# Altium footprint library con-omron.PCBLIB: 109 footprints (part 1 of 8)
Each footprint in its own frame and in the unit in brackets; x right, y up, seen from the top. Pads: shape width x height; smd on the part's side, far side on the other; paste and mask are expansions set on the pad; w line width, h text height; cw(c..) or ccw(c..) is an arc to the next point about the centre after c.
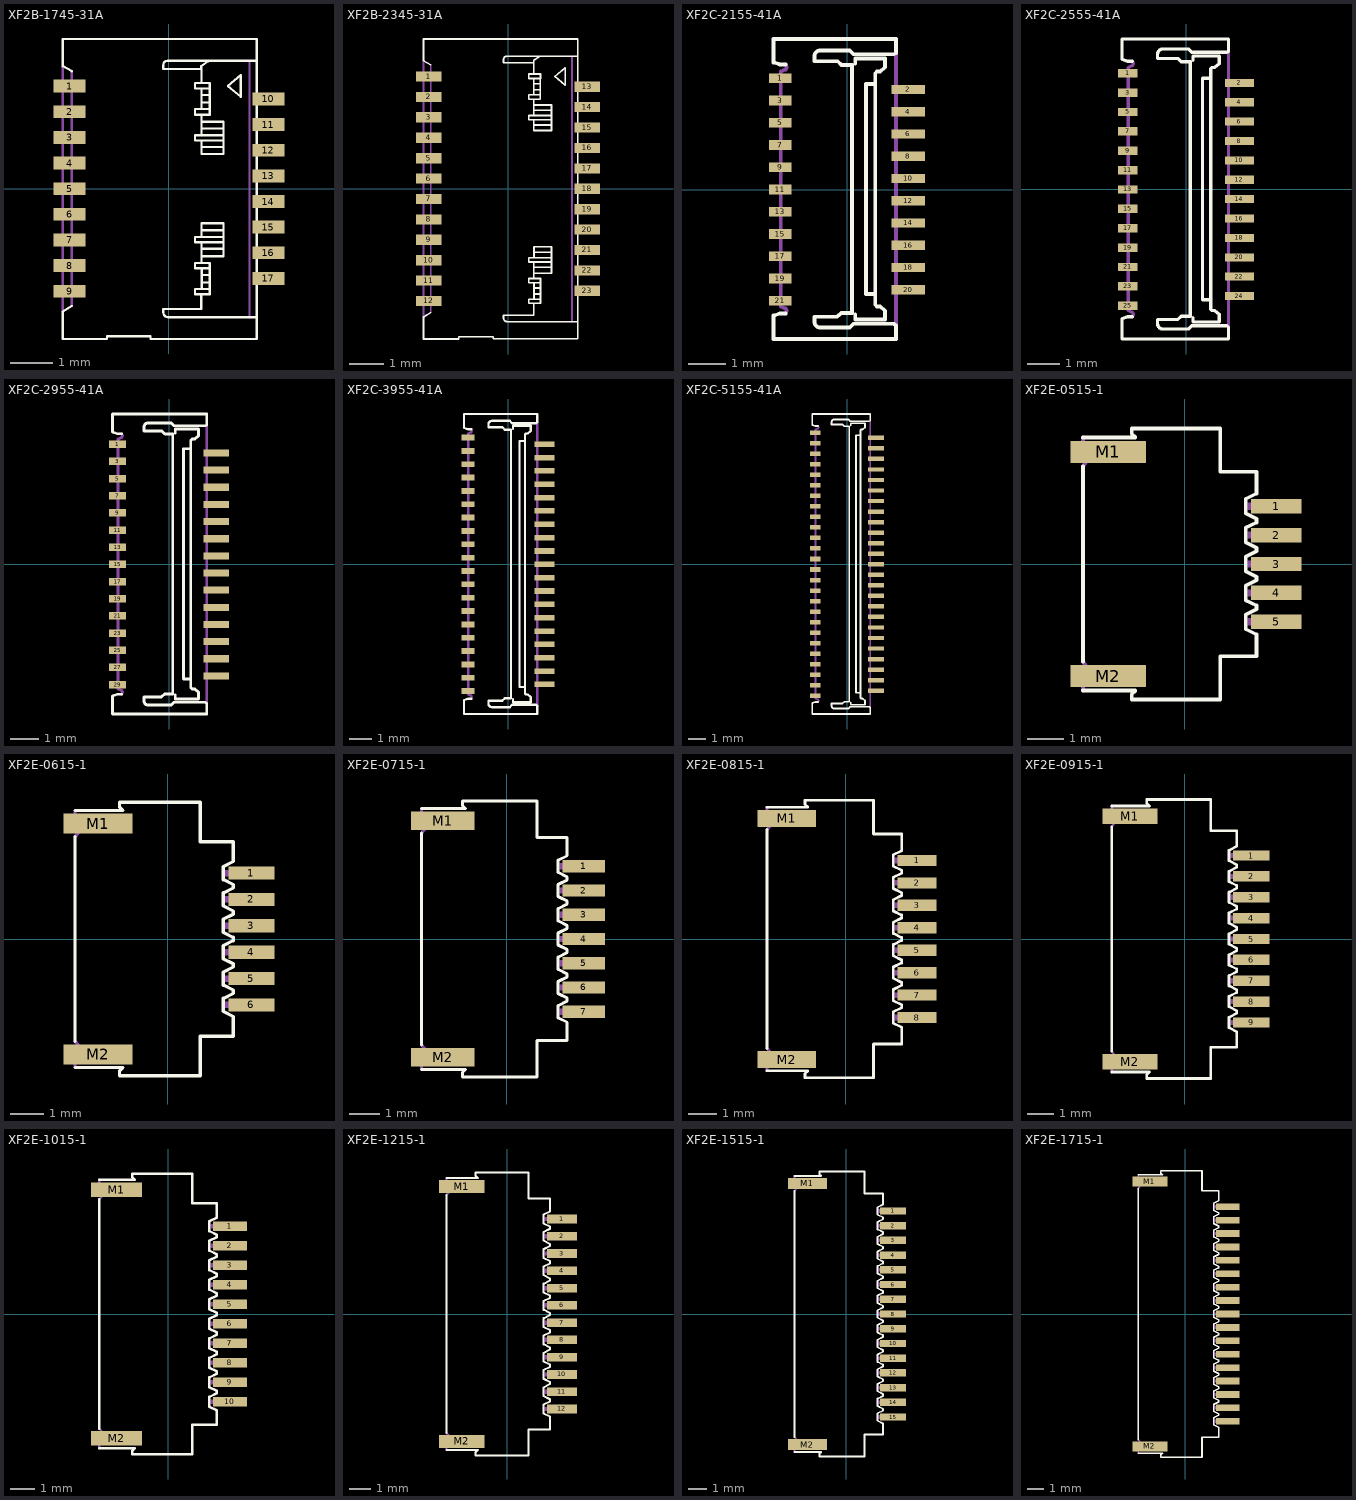
[diagram p0: the footprints below, top view; thin cyan lines are the x and y axes]

## XF2B-1745-31A [mm]
pads (17):
  rect 0.75x0.3 smd: 1(-2.325,2.4) 2(-2.325,1.8) 3(-2.325,1.2) 4(-2.325,0.6) 5(-2.325,0) 6(-2.325,-0.6) 7(-2.325,-1.2) 8(-2.325,-1.8) 9(-2.325,-2.4) 10(2.325,2.1) 11(2.325,1.5) 12(2.325,0.9) 13(2.325,0.3) 14(2.325,-0.3) 15(2.325,-0.9) 16(2.325,-1.5) 17(2.325,-2.1)
Top Overlay:
  lines w0.051: -2.275,-2.745 -2.485,-2.871 -2.485,-3.517 -1.448,-3.517 -1.448,-3.453 -0.435,-3.453 -0.435,-3.514 2.054,-3.514 2.054,3.503 -2.485,3.503 -2.485,2.867 -2.275,2.75 ; 0.738,2.473 0.612,2.473 0.612,2.344 0.955,2.344 0.955,2.473 0.758,2.473 0.758,2.796 ; 0.755,2.874 0.755,2.803 -0.133,2.803 -0.133,2.898 cw(c-0.037,2.898) -0.037,2.993 2.03,2.993 ; 0.758,-1.712 0.758,-1.253 1.278,-1.253 1.278,-1.583 0.785,-1.583 ; 0.758,1.106 0.758,0.81 1.278,0.81 1.278,1.123 ; 0.758,1.252 0.758,1.708 ; 0.758,1.875 0.758,2.316 ; 0.758,2.874 0.918,2.983 ; 0.761,-1.253 0.612,-1.253 0.612,-1.127 1.278,-1.127 ; 0.761,-1.103 0.761,-0.807 1.278,-0.807 1.278,-1.236 ; 0.765,-2.337 0.765,-1.888 ; 0.782,1.565 1.278,1.565 1.278,1.252 0.612,1.252 0.612,1.13 1.278,1.13 1.278,1.249 ; 0.785,-1.406 1.251,-1.406 ; 0.785,0.973 1.251,0.973 ; 0.785,1.405 1.255,1.405 ; 0.785,2.014 0.928,2.014 ; 0.785,2.19 0.925,2.19 ; 0.789,-2.191 0.932,-2.191 ; 0.789,-0.971 1.255,-0.971 ; 0.792,-2.018 0.932,-2.018 ; 0.938,-1.861 0.612,-1.861 0.612,-1.739 0.955,-1.739 0.955,-2.348 ; 0.945,1.864 0.612,1.864 0.612,1.732 0.952,1.732 0.952,2.316 ; 2.026,-3.007 -0.024,-3.007 cw(c-0.024,-2.898) -0.133,-2.898 -0.133,-2.817 0.755,-2.817 0.755,-2.47 ; 0.755,-2.47 0.612,-2.47 0.612,-2.348 0.955,-2.348 ; 0.755,-2.47 0.955,-2.47 0.955,-2.348 ; 1.377,2.401 1.68,2.66 1.68,2.15 1.377,2.401
Mechanical 16:
  rectangle: 2.054,2.007 2.587,2.197
  rectangle: -2.611,2.316 -2.292,2.497
  rectangle: 2.054,1.407 2.587,1.597
  rectangle: 2.054,0.807 2.587,0.997
  rectangle: 2.054,0.207 2.587,0.398
  rectangle: 2.054,-0.393 2.587,-0.203
  rectangle: 2.054,-0.993 2.587,-0.803
  rectangle: 2.054,-1.593 2.587,-1.403
  rectangle: 2.054,-2.193 2.587,-2.003
  rectangle: -2.611,1.716 -2.292,1.897
  rectangle: -2.611,1.116 -2.292,1.297
  rectangle: -2.611,0.516 -2.292,0.697
  rectangle: -2.611,-0.084 -2.292,0.097
  rectangle: -2.611,-0.684 -2.292,-0.503
  rectangle: -2.611,-1.284 -2.292,-1.103
  rectangle: -2.611,-1.884 -2.292,-1.703
  rectangle: -2.611,-2.484 -2.292,-2.304
  lines w0.051: -2.485,-2.871 -2.485,2.86 ; -2.275,-2.74 -2.275,2.75 ; 0.755,2.874 0.758,2.874 ; 0.758,1.252 0.761,1.252 ; 0.761,-1.26 0.761,-1.253 ; 1.278,-1.13 1.278,-1.127 ; 1.884,-3.007 1.884,2.971

## XF2B-2345-31A [mm]
pads (23):
  rect 0.75x0.3 smd: 1(-2.325,3.3) 2(-2.325,2.7) 3(-2.325,2.1) 4(-2.325,1.5) 5(-2.325,0.9) 6(-2.325,0.3) 7(-2.325,-0.3) 8(-2.325,-0.9) 9(-2.325,-1.5) 10(-2.325,-2.1) 11(-2.325,-2.7) 12(-2.325,-3.3) 13(2.325,3) 14(2.325,2.4) 15(2.325,1.8) 16(2.325,1.2) 17(2.325,0.6) 18(2.325,0) 19(2.325,-0.6) 20(2.325,-1.2) 21(2.325,-1.8) 22(2.325,-2.4) 23(2.325,-3)
Top Overlay:
  lines w0.051: -2.275,-3.645 -2.485,-3.771 -2.485,-4.417 -1.448,-4.417 -1.448,-4.353 -0.435,-4.353 -0.435,-4.414 2.054,-4.414 2.054,4.403 -2.485,4.403 -2.485,3.767 -2.275,3.65 ; 0.738,3.373 0.612,3.373 0.612,3.244 0.955,3.244 0.955,3.373 0.758,3.373 0.758,3.696 ; 0.755,3.774 0.755,3.703 -0.133,3.703 -0.133,3.798 cw(c-0.037,3.798) -0.037,3.893 2.03,3.893 ; 0.758,-2.612 0.758,-2.153 1.278,-2.153 1.278,-2.483 0.785,-2.483 ; 0.758,2.006 0.758,1.71 1.278,1.71 1.278,2.023 ; 0.758,2.152 0.758,2.608 ; 0.758,2.774 0.758,3.216 ; 0.758,3.774 0.918,3.883 ; 0.761,-2.153 0.612,-2.153 0.612,-2.027 1.278,-2.027 ; 0.761,-2.003 0.761,-1.707 1.278,-1.707 1.278,-2.136 ; 0.765,-3.237 0.765,-2.789 ; 0.782,2.465 1.278,2.465 1.278,2.152 0.612,2.152 0.612,2.03 1.278,2.03 1.278,2.149 ; 0.785,-2.306 1.251,-2.306 ; 0.785,1.874 1.251,1.874 ; 0.785,2.305 1.255,2.305 ; 0.785,2.914 0.928,2.914 ; 0.785,3.091 0.925,3.091 ; 0.789,-3.091 0.932,-3.091 ; 0.789,-1.871 1.255,-1.871 ; 0.792,-2.918 0.932,-2.918 ; 0.938,-2.761 0.612,-2.761 0.612,-2.639 0.955,-2.639 0.955,-3.248 ; 0.945,2.764 0.612,2.764 0.612,2.632 0.952,2.632 0.952,3.216 ; 2.026,-3.907 -0.024,-3.907 cw(c-0.024,-3.798) -0.133,-3.798 -0.133,-3.717 0.755,-3.717 0.755,-3.37 ; 0.755,-3.37 0.612,-3.37 0.612,-3.248 0.955,-3.248 ; 0.755,-3.37 0.955,-3.37 0.955,-3.248 ; 1.377,3.301 1.68,3.56 1.68,3.05 1.377,3.301
Mechanical 16:
  rectangle: 2.054,2.907 2.587,3.097
  rectangle: -2.611,3.216 -2.292,3.396
  rectangle: -2.611,-3.397 -2.275,-3.227
  rectangle: 2.074,-3.101 2.587,-2.911
  rectangle: 2.054,2.307 2.587,2.497
  rectangle: 2.054,1.707 2.587,1.897
  rectangle: 2.054,1.107 2.587,1.297
  rectangle: 2.054,0.507 2.587,0.697
  rectangle: 2.054,-0.093 2.587,0.097
  rectangle: 2.054,-0.693 2.587,-0.503
  rectangle: 2.054,-1.293 2.587,-1.103
  rectangle: 2.054,-1.893 2.587,-1.703
  rectangle: 2.054,-2.493 2.587,-2.303
  rectangle: -2.611,2.616 -2.292,2.797
  rectangle: -2.611,2.017 -2.292,2.197
  rectangle: -2.611,1.416 -2.292,1.597
  rectangle: -2.611,0.816 -2.292,0.997
  rectangle: -2.611,0.216 -2.292,0.396
  rectangle: -2.611,-0.384 -2.292,-0.203
  rectangle: -2.611,-0.983 -2.292,-0.803
  rectangle: -2.611,-1.584 -2.292,-1.403
  rectangle: -2.611,-2.184 -2.292,-2.003
  rectangle: -2.611,-2.784 -2.292,-2.603
  lines w0.051: -2.485,-3.771 -2.485,3.76 ; -2.275,-3.64 -2.275,3.65 ; 0.755,3.774 0.758,3.774 ; 0.758,2.152 0.761,2.152 ; 0.761,-2.16 0.761,-2.153 ; 1.278,-2.03 1.278,-2.027 ; 1.884,-3.907 1.884,3.871

## XF2C-2155-41A [mm]
pads (21):
  rect 0.6x0.26 smd: 1(-1.8,3) 3(-1.8,2.4) 5(-1.8,1.8) 7(-1.8,1.2) 9(-1.8,0.6) 11(-1.8,0) 13(-1.8,-0.6) 15(-1.8,-1.2) 17(-1.8,-1.8) 19(-1.8,-2.4) 21(-1.8,-3)
  rect 0.9x0.25 smd: 2(1.65,2.7) 4(1.65,2.1) 6(1.65,1.5) 8(1.65,0.9) 10(1.65,0.3) 12(1.65,-0.3) 14(1.65,-0.9) 16(1.65,-1.5) 18(1.65,-2.1) 20(1.65,-2.7)
Top Overlay:
  lines w0.102: -1.656,-3.341 -1.803,-3.34 -1.978,-3.399 -1.978,-4.029 1.319,-4.029 1.319,-3.663 1.26,-3.619 0.176,-3.619 0.073,-3.721 -0.718,-3.722 cw(c-0.718,-3.56) -0.879,-3.56 -0.879,-3.428 -0.264,-3.428 -0.147,-3.326 0.132,-3.326 0.132,3.355 -0.147,3.355 -0.249,3.458 -0.879,3.458 -0.879,3.59 cw(c-0.718,3.59) -0.718,3.751 0.073,3.751 0.176,3.648 1.26,3.648 1.319,3.677 1.319,4.058 -1.978,4.058 -1.978,3.428 -1.803,3.37 -1.656,3.37 ; 0.22,-3.37 0.22,-3.501 1.026,-3.501 1.026,-3.267 0.894,-3.15 0.806,-3.15 0.762,-3.106 0.762,-2.813 ; 0.22,3.399 0.22,3.531 1.026,3.531 1.026,3.296 0.894,3.179 0.806,3.179 0.762,3.135 0.762,2.842 ; 0.762,-2.813 0.513,-2.813 0.513,2.842 0.762,2.842 ; 0.762,-2.813 0.762,2.842
Top Solder:
  rectangle: -2.15,2.825 -1.45,3.175
  rectangle: 1.15,2.525 2.15,2.875
  rectangle: -2.15,2.225 -1.45,2.575
  rectangle: 1.15,1.925 2.15,2.275
  rectangle: -2.15,1.625 -1.45,1.975
  rectangle: 1.15,1.325 2.15,1.675
  rectangle: -2.15,1.025 -1.45,1.375
  rectangle: 1.15,0.725 2.15,1.075
  rectangle: -2.15,0.425 -1.45,0.775
  rectangle: 1.15,0.125 2.15,0.475
  rectangle: -2.15,-0.175 -1.45,0.175
  rectangle: 1.15,-0.475 2.15,-0.125
  rectangle: -2.15,-0.775 -1.45,-0.425
  rectangle: 1.15,-1.075 2.15,-0.725
  rectangle: -2.15,-1.375 -1.45,-1.025
  rectangle: 1.15,-1.675 2.15,-1.325
  rectangle: -2.15,-1.975 -1.45,-1.625
  rectangle: 1.15,-2.275 2.15,-1.925
  rectangle: -2.15,-2.575 -1.45,-2.225
  rectangle: 1.15,-2.875 2.15,-2.525
  rectangle: -2.15,-3.175 -1.45,-2.825
Mechanical 16:
  lines w0.102: -1.656,-3.341 -1.627,-3.267 -1.656,-3.209 -1.788,-3.15 -1.788,3.179 -1.656,3.238 -1.627,3.296 -1.656,3.37 ; 1.319,-3.663 1.319,3.677

## XF2C-2555-41A [mm]
pads (25):
  rect 0.6x0.26 smd: 1(-1.8,3.6) 3(-1.8,3) 5(-1.8,2.4) 7(-1.8,1.8) 9(-1.8,1.2) 11(-1.8,0.6) 13(-1.8,0) 15(-1.8,-0.6) 17(-1.8,-1.2) 19(-1.8,-1.8) 21(-1.8,-2.4) 23(-1.8,-3) 25(-1.8,-3.6)
  rect 0.9x0.25 smd: 2(1.65,3.3) 4(1.65,2.7) 6(1.65,2.1) 8(1.65,1.5) 10(1.65,0.9) 12(1.65,0.3) 14(1.65,-0.3) 16(1.65,-0.9) 18(1.65,-1.5) 20(1.65,-2.1) 22(1.65,-2.7) 24(1.65,-3.3)
Top Overlay:
  lines w0.102: -1.656,-3.941 -1.803,-3.94 -1.978,-3.999 -1.978,-4.629 1.319,-4.629 1.319,-4.263 1.26,-4.219 0.176,-4.219 0.073,-4.321 -0.718,-4.322 cw(c-0.718,-4.16) -0.879,-4.16 -0.879,-4.028 -0.264,-4.028 -0.147,-3.926 0.132,-3.926 0.132,3.955 -0.147,3.955 -0.249,4.058 -0.879,4.058 -0.879,4.189 cw(c-0.718,4.189) -0.718,4.351 0.073,4.351 0.176,4.248 1.26,4.248 1.319,4.278 1.319,4.659 -1.978,4.659 -1.978,4.028 -1.803,3.97 -1.656,3.97 ; 0.22,-3.97 0.22,-4.102 1.026,-4.102 1.026,-3.867 0.894,-3.75 0.806,-3.75 0.762,-3.706 0.762,-3.413 ; 0.22,3.999 0.22,4.131 1.026,4.131 1.026,3.897 0.894,3.779 0.806,3.779 0.762,3.735 0.762,3.442 ; 0.762,-3.413 0.513,-3.413 0.513,3.442 0.762,3.442 ; 0.762,-3.413 0.762,3.442
Top Solder:
  rectangle: -2.15,3.425 -1.45,3.775
  rectangle: 1.15,3.125 2.15,3.475
  rectangle: -2.15,2.825 -1.45,3.175
  rectangle: 1.15,2.525 2.15,2.875
  rectangle: -2.15,2.225 -1.45,2.575
  rectangle: 1.15,1.925 2.15,2.275
  rectangle: -2.15,1.625 -1.45,1.975
  rectangle: 1.15,1.325 2.15,1.675
  rectangle: -2.15,1.025 -1.45,1.375
  rectangle: 1.15,0.725 2.15,1.075
  rectangle: -2.15,0.425 -1.45,0.775
  rectangle: 1.15,0.125 2.15,0.475
  rectangle: -2.15,-0.175 -1.45,0.175
  rectangle: 1.15,-0.475 2.15,-0.125
  rectangle: -2.15,-0.775 -1.45,-0.425
  rectangle: 1.15,-1.075 2.15,-0.725
  rectangle: -2.15,-1.375 -1.45,-1.025
  rectangle: 1.15,-1.675 2.15,-1.325
  rectangle: -2.15,-1.975 -1.45,-1.625
  rectangle: 1.15,-2.275 2.15,-1.925
  rectangle: -2.15,-2.575 -1.45,-2.225
  rectangle: 1.15,-2.875 2.15,-2.525
  rectangle: -2.15,-3.175 -1.45,-2.825
  rectangle: 1.15,-3.475 2.15,-3.125
  rectangle: -2.15,-3.775 -1.45,-3.425
Mechanical 16:
  lines w0.102: -1.656,-3.941 -1.627,-3.867 -1.656,-3.808 -1.788,-3.75 -1.788,3.779 -1.656,3.838 -1.627,3.897 -1.656,3.97 ; 1.319,-4.263 1.319,4.278

## XF2C-2955-41A [mm]
pads (29):
  rect 0.6x0.26 smd: 1(-1.8,4.2) 3(-1.8,3.6) 5(-1.8,3) 7(-1.8,2.4) 9(-1.8,1.8) 11(-1.8,1.2) 13(-1.8,0.6) 15(-1.8,0) 17(-1.8,-0.6) 19(-1.8,-1.2) 21(-1.8,-1.8) 23(-1.8,-2.4) 25(-1.8,-3) 27(-1.8,-3.6) 29(-1.8,-4.2)
  rect 0.9x0.25 smd: 2(1.65,3.9) 4(1.65,3.3) 6(1.65,2.7) 8(1.65,2.1) 10(1.65,1.5) 12(1.65,0.9) 14(1.65,0.3) 16(1.65,-0.3) 18(1.65,-0.9) 20(1.65,-1.5) 22(1.65,-2.1) 24(1.65,-2.7) 26(1.65,-3.3) 28(1.65,-3.9)
Top Overlay:
  lines w0.102: -1.656,-4.541 -1.803,-4.541 -1.978,-4.599 -1.978,-5.229 1.319,-5.229 1.319,-4.863 1.26,-4.819 0.176,-4.819 0.073,-4.922 -0.718,-4.922 cw(c-0.718,-4.76) -0.879,-4.76 -0.879,-4.628 -0.264,-4.628 -0.147,-4.526 0.132,-4.526 0.132,4.555 -0.147,4.555 -0.249,4.658 -0.879,4.658 -0.879,4.79 cw(c-0.718,4.79) -0.718,4.951 0.073,4.951 0.176,4.848 1.26,4.848 1.319,4.878 1.319,5.259 -1.978,5.259 -1.978,4.628 -1.803,4.57 -1.656,4.57 ; 0.22,-4.57 0.22,-4.702 1.026,-4.702 1.026,-4.467 0.894,-4.35 0.806,-4.35 0.762,-4.306 0.762,-4.013 ; 0.22,4.599 0.22,4.731 1.026,4.731 1.026,4.497 0.894,4.379 0.806,4.379 0.762,4.335 0.762,4.042 ; 0.762,-4.013 0.513,-4.013 0.513,4.042 0.762,4.042 ; 0.762,-4.013 0.762,4.042
Top Solder:
  rectangle: -2.15,4.025 -1.45,4.375
  rectangle: 1.15,3.725 2.15,4.075
  rectangle: -2.15,3.425 -1.45,3.775
  rectangle: 1.15,3.125 2.15,3.475
  rectangle: -2.15,2.825 -1.45,3.175
  rectangle: 1.15,2.525 2.15,2.875
  rectangle: -2.15,2.225 -1.45,2.575
  rectangle: 1.15,1.925 2.15,2.275
  rectangle: -2.15,1.625 -1.45,1.975
  rectangle: 1.15,1.325 2.15,1.675
  rectangle: -2.15,1.025 -1.45,1.375
  rectangle: 1.15,0.725 2.15,1.075
  rectangle: -2.15,0.425 -1.45,0.775
  rectangle: 1.15,0.125 2.15,0.475
  rectangle: -2.15,-0.175 -1.45,0.175
  rectangle: 1.15,-0.475 2.15,-0.125
  rectangle: -2.15,-0.775 -1.45,-0.425
  rectangle: 1.15,-1.075 2.15,-0.725
  rectangle: -2.15,-1.375 -1.45,-1.025
  rectangle: 1.15,-1.675 2.15,-1.325
  rectangle: -2.15,-1.975 -1.45,-1.625
  rectangle: 1.15,-2.275 2.15,-1.925
  rectangle: -2.15,-2.575 -1.45,-2.225
  rectangle: 1.15,-2.875 2.15,-2.525
  rectangle: -2.15,-3.175 -1.45,-2.825
  rectangle: 1.15,-3.475 2.15,-3.125
  rectangle: -2.15,-3.775 -1.45,-3.425
  rectangle: 1.15,-4.075 2.15,-3.725
  rectangle: -2.15,-4.375 -1.45,-4.025
Mechanical 16:
  lines w0.102: -1.656,-4.541 -1.627,-4.467 -1.656,-4.408 -1.788,-4.35 -1.788,4.379 -1.656,4.438 -1.627,4.497 -1.656,4.57 ; 1.319,-4.863 1.319,4.878

## XF2C-3955-41A [mm]
pads (39):
  rect 0.6x0.26 smd: 1(-1.8,5.7) 3(-1.8,5.1) 5(-1.8,4.5) 7(-1.8,3.9) 9(-1.8,3.3) 11(-1.8,2.7) 13(-1.8,2.1) 15(-1.8,1.5) 17(-1.8,0.9) 19(-1.8,0.3) 21(-1.8,-0.3) 23(-1.8,-0.9) 25(-1.8,-1.5) 27(-1.8,-2.1) 29(-1.8,-2.7) 31(-1.8,-3.3) 33(-1.8,-3.9) 35(-1.8,-4.5) 37(-1.8,-5.1) 39(-1.8,-5.7)
  rect 0.9x0.25 smd: 2(1.65,5.4) 4(1.65,4.8) 6(1.65,4.2) 8(1.65,3.6) 10(1.65,3) 12(1.65,2.4) 14(1.65,1.8) 16(1.65,1.2) 18(1.65,0.6) 20(1.65,0) 22(1.65,-0.6) 24(1.65,-1.2) 26(1.65,-1.8) 28(1.65,-2.4) 30(1.65,-3) 32(1.65,-3.6) 34(1.65,-4.2) 36(1.65,-4.8) 38(1.65,-5.4)
Top Overlay:
  lines w0.102: -1.656,-6.041 -1.803,-6.04 -1.978,-6.099 -1.978,-6.729 1.319,-6.729 1.319,-6.363 1.26,-6.319 0.176,-6.319 0.073,-6.421 -0.718,-6.422 cw(c-0.718,-6.26) -0.879,-6.26 -0.879,-6.129 -0.264,-6.129 -0.147,-6.026 0.132,-6.026 0.132,6.055 -0.147,6.055 -0.249,6.158 -0.879,6.158 -0.879,6.29 cw(c-0.718,6.29) -0.718,6.451 0.073,6.451 0.176,6.348 1.26,6.348 1.319,6.377 1.319,6.758 -1.978,6.758 -1.978,6.128 -1.803,6.07 -1.656,6.07 ; 0.22,-6.07 0.22,-6.201 1.026,-6.201 1.026,-5.967 0.894,-5.85 0.806,-5.85 0.762,-5.806 0.762,-5.513 ; 0.22,6.099 0.22,6.231 1.026,6.231 1.026,5.996 0.894,5.879 0.806,5.879 0.762,5.835 0.762,5.542 ; 0.762,-5.513 0.513,-5.513 0.513,5.542 0.762,5.542 ; 0.762,-5.513 0.762,5.542
Top Solder:
  rectangle: -2.15,5.525 -1.45,5.875
  rectangle: 1.15,5.225 2.15,5.575
  rectangle: -2.15,4.925 -1.45,5.275
  rectangle: 1.15,4.625 2.15,4.975
  rectangle: -2.15,4.325 -1.45,4.675
  rectangle: 1.15,4.025 2.15,4.375
  rectangle: -2.15,3.725 -1.45,4.075
  rectangle: 1.15,3.425 2.15,3.775
  rectangle: -2.15,3.125 -1.45,3.475
  rectangle: 1.15,2.825 2.15,3.175
  rectangle: -2.15,2.525 -1.45,2.875
  rectangle: 1.15,2.225 2.15,2.575
  rectangle: -2.15,1.925 -1.45,2.275
  rectangle: 1.15,1.625 2.15,1.975
  rectangle: -2.15,1.325 -1.45,1.675
  rectangle: 1.15,1.025 2.15,1.375
  rectangle: -2.15,0.725 -1.45,1.075
  rectangle: 1.15,0.425 2.15,0.775
  rectangle: -2.15,0.125 -1.45,0.475
  rectangle: 1.15,-0.175 2.15,0.175
  rectangle: -2.15,-0.475 -1.45,-0.125
  rectangle: 1.15,-0.775 2.15,-0.425
  rectangle: -2.15,-1.075 -1.45,-0.725
  rectangle: 1.15,-1.375 2.15,-1.025
  rectangle: -2.15,-1.675 -1.45,-1.325
  rectangle: 1.15,-1.975 2.15,-1.625
  rectangle: -2.15,-2.275 -1.45,-1.925
  rectangle: 1.15,-2.575 2.15,-2.225
  rectangle: -2.15,-2.875 -1.45,-2.525
  rectangle: 1.15,-3.175 2.15,-2.825
  rectangle: -2.15,-3.475 -1.45,-3.125
  rectangle: 1.15,-3.775 2.15,-3.425
  rectangle: -2.15,-4.075 -1.45,-3.725
  rectangle: 1.15,-4.375 2.15,-4.025
  rectangle: -2.15,-4.675 -1.45,-4.325
  rectangle: 1.15,-4.975 2.15,-4.625
  rectangle: -2.15,-5.275 -1.45,-4.925
  rectangle: 1.15,-5.575 2.15,-5.225
  rectangle: -2.15,-5.875 -1.45,-5.525
Mechanical 16:
  lines w0.102: -1.656,-6.041 -1.627,-5.967 -1.656,-5.909 -1.788,-5.85 -1.788,5.879 -1.656,5.938 -1.627,5.996 -1.656,6.07 ; 1.319,-6.363 1.319,6.377

## XF2C-5155-41A [mm]
pads (51):
  rect 0.6x0.26 smd: 1(-1.8,7.5) 3(-1.8,6.9) 5(-1.8,6.3) 7(-1.8,5.7) 9(-1.8,5.1) 11(-1.8,4.5) 13(-1.8,3.9) 15(-1.8,3.3) 17(-1.8,2.7) 19(-1.8,2.1) 21(-1.8,1.5) 23(-1.8,0.9) 25(-1.8,0.3) 27(-1.8,-0.3) 29(-1.8,-0.9) 31(-1.8,-1.5) 33(-1.8,-2.1) 35(-1.8,-2.7) 37(-1.8,-3.3) 39(-1.8,-3.9) 41(-1.8,-4.5) 43(-1.8,-5.1) 45(-1.8,-5.7) 47(-1.8,-6.3) 49(-1.8,-6.9) 51(-1.8,-7.5)
  rect 0.9x0.25 smd: 2(1.65,7.2) 4(1.65,6.6) 6(1.65,6) 8(1.65,5.4) 10(1.65,4.8) 12(1.65,4.2) 14(1.65,3.6) 16(1.65,3) 18(1.65,2.4) 20(1.65,1.8) 22(1.65,1.2) 24(1.65,0.6) 26(1.65,0) 28(1.65,-0.6) 30(1.65,-1.2) 32(1.65,-1.8) 34(1.65,-2.4) 36(1.65,-3) 38(1.65,-3.6) 40(1.65,-4.2) 42(1.65,-4.8) 44(1.65,-5.4) 46(1.65,-6) 48(1.65,-6.6) 50(1.65,-7.2)
Top Overlay:
  lines w0.102: -1.656,-7.84 -1.803,-7.84 -1.978,-7.899 -1.978,-8.529 1.319,-8.529 1.319,-8.163 1.26,-8.119 0.176,-8.119 0.073,-8.221 -0.718,-8.221 cw(c-0.718,-8.06) -0.879,-8.06 -0.879,-7.928 -0.264,-7.928 -0.147,-7.826 0.132,-7.826 0.132,7.855 -0.147,7.855 -0.249,7.958 -0.879,7.958 -0.879,8.09 cw(c-0.718,8.09) -0.718,8.251 0.073,8.251 0.176,8.148 1.26,8.148 1.319,8.178 1.319,8.559 -1.978,8.559 -1.978,7.928 -1.803,7.87 -1.656,7.87 ; 0.22,-7.87 0.22,-8.002 1.026,-8.002 1.026,-7.767 0.894,-7.65 0.806,-7.65 0.762,-7.606 0.762,-7.313 ; 0.22,7.899 0.22,8.031 1.026,8.031 1.026,7.797 0.894,7.679 0.806,7.679 0.762,7.635 0.762,7.342 ; 0.762,-7.313 0.513,-7.313 0.513,7.342 0.762,7.342 ; 0.762,-7.313 0.762,7.342
Top Solder:
  rectangle: -2.15,7.325 -1.45,7.675
  rectangle: 1.15,7.025 2.15,7.375
  rectangle: -2.15,6.725 -1.45,7.075
  rectangle: 1.15,6.425 2.15,6.775
  rectangle: -2.15,6.125 -1.45,6.475
  rectangle: 1.15,5.825 2.15,6.175
  rectangle: -2.15,5.525 -1.45,5.875
  rectangle: 1.15,5.225 2.15,5.575
  rectangle: -2.15,4.925 -1.45,5.275
  rectangle: 1.15,4.625 2.15,4.975
  rectangle: -2.15,4.325 -1.45,4.675
  rectangle: 1.15,4.025 2.15,4.375
  rectangle: -2.15,3.725 -1.45,4.075
  rectangle: 1.15,3.425 2.15,3.775
  rectangle: -2.15,3.125 -1.45,3.475
  rectangle: 1.15,2.825 2.15,3.175
  rectangle: -2.15,2.525 -1.45,2.875
  rectangle: 1.15,2.225 2.15,2.575
  rectangle: -2.15,1.925 -1.45,2.275
  rectangle: 1.15,1.625 2.15,1.975
  rectangle: -2.15,1.325 -1.45,1.675
  rectangle: 1.15,1.025 2.15,1.375
  rectangle: -2.15,0.725 -1.45,1.075
  rectangle: 1.15,0.425 2.15,0.775
  rectangle: -2.15,0.125 -1.45,0.475
  rectangle: 1.15,-0.175 2.15,0.175
  rectangle: -2.15,-0.475 -1.45,-0.125
  rectangle: 1.15,-0.775 2.15,-0.425
  rectangle: -2.15,-1.075 -1.45,-0.725
  rectangle: 1.15,-1.375 2.15,-1.025
  rectangle: -2.15,-1.675 -1.45,-1.325
  rectangle: 1.15,-1.975 2.15,-1.625
  rectangle: -2.15,-2.275 -1.45,-1.925
  rectangle: 1.15,-2.575 2.15,-2.225
  rectangle: -2.15,-2.875 -1.45,-2.525
  rectangle: 1.15,-3.175 2.15,-2.825
  rectangle: -2.15,-3.475 -1.45,-3.125
  rectangle: 1.15,-3.775 2.15,-3.425
  rectangle: -2.15,-4.075 -1.45,-3.725
  rectangle: 1.15,-4.375 2.15,-4.025
  rectangle: -2.15,-4.675 -1.45,-4.325
  rectangle: 1.15,-4.975 2.15,-4.625
  rectangle: -2.15,-5.275 -1.45,-4.925
  rectangle: 1.15,-5.575 2.15,-5.225
  rectangle: -2.15,-5.875 -1.45,-5.525
  rectangle: 1.15,-6.175 2.15,-5.825
  rectangle: -2.15,-6.475 -1.45,-6.125
  rectangle: 1.15,-6.775 2.15,-6.425
  rectangle: -2.15,-7.075 -1.45,-6.725
  rectangle: 1.15,-7.375 2.15,-7.025
  rectangle: -2.15,-7.675 -1.45,-7.325
Mechanical 16:
  lines w0.102: -1.656,-7.84 -1.627,-7.767 -1.656,-7.708 -1.788,-7.65 -1.788,7.679 -1.656,7.738 -1.627,7.797 -1.656,7.87 ; 1.319,-8.163 1.319,8.178

## XF2E-0515-1 [mil]
pads (7):
  rect 55.12x15.75 smd: 1(100,62.99) 2(100,31.5) 3(100,0) 4(100,-31.5) 5(100,-62.99)
  rect 82.68x23.62 smd: M1(-83.07,122.05) M2(-83.07,-122.05)
Top Overlay:
  lines w4: -110.63,-137.8 -53.54,-137.8 -57.48,-141.73 -57.48,-147.64 38.98,-147.64 38.98,-100.39 78.35,-100.39 78.35,-76.77 66.54,-70.87 66.54,-55.12 78.35,-49.21 78.35,-45.28 66.54,-39.37 66.54,-23.62 78.35,-17.72 78.35,-13.78 66.54,-7.87 66.54,7.87 78.35,13.78 78.35,17.72 66.54,23.62 66.54,39.37 78.35,45.28 78.35,49.21 66.54,55.12 66.54,70.87 78.35,76.77 78.35,100.39 38.98,100.39 38.98,147.64 -57.48,147.64 -57.48,141.73 -53.54,137.8 -110.63,137.8 ; -110.63,-106.3 -110.63,106.3
Mechanical 16:
  rectangle: 68.5,59.06 107.87,66.93
  rectangle: 68.5,27.56 107.87,35.43
  rectangle: 68.5,-3.94 107.87,3.94
  rectangle: 68.5,-35.43 107.87,-27.56
  rectangle: 68.5,-66.93 107.87,-59.06
  lines w4: -110.63,-137.8 -110.63,-116.14 -102.76,-116.14 -110.63,-106.3 ; -110.63,106.3 -102.76,116.14 -110.63,116.14 -110.63,137.8

## XF2E-0615-1 [mm]
pads (8):
  rect 1.4x0.4 smd: 1(2.54,2) 2(2.54,1.2) 3(2.54,0.4) 4(2.54,-0.4) 5(2.54,-1.2) 6(2.54,-2)
  rect 2.1x0.6 smd: M1(-2.11,3.5) M2(-2.11,-3.5)
Top Overlay:
  lines w0.102: -2.81,-3.9 -1.36,-3.9 -1.46,-4 -1.46,-4.15 0.99,-4.15 0.99,-2.95 1.99,-2.95 1.99,-2.35 1.69,-2.2 1.69,-1.8 1.99,-1.65 1.99,-1.55 1.69,-1.4 1.69,-1 1.99,-0.85 1.99,-0.75 1.69,-0.6 1.69,-0.2 1.99,-0.05 1.99,0.05 1.69,0.2 1.69,0.6 1.99,0.75 1.99,0.85 1.69,1 1.69,1.4 1.99,1.55 1.99,1.65 1.69,1.8 1.69,2.2 1.99,2.35 1.99,2.95 0.99,2.95 0.99,4.15 -1.46,4.15 -1.46,4 -1.36,3.9 -2.81,3.9 ; -2.81,-3.1 -2.81,3.1
Mechanical 16:
  rectangle: 1.74,1.9 2.74,2.1
  rectangle: 1.74,1.1 2.74,1.3
  rectangle: 1.74,0.3 2.74,0.5
  rectangle: 1.74,-0.5 2.74,-0.3
  rectangle: 1.74,-1.3 2.74,-1.1
  rectangle: 1.74,-2.1 2.74,-1.9
  lines w0.102: -2.81,-3.9 -2.81,-3.35 -2.61,-3.35 -2.81,-3.1 ; -2.81,3.1 -2.61,3.35 -2.81,3.35 -2.81,3.9

## XF2E-0715-1 [mil]
pads (9):
  rect 55.12x15.75 smd: 1(100,94.49) 2(100,62.99) 3(100,31.5) 4(100,0) 5(100,-31.5) 6(100,-62.99) 7(100,-94.49)
  rect 82.68x23.62 smd: M1(-83.07,153.54) M2(-83.07,-153.54)
Top Overlay:
  lines w4: -110.63,-169.29 -53.54,-169.29 -57.48,-173.23 -57.48,-179.13 38.98,-179.13 38.98,-131.89 78.35,-131.89 78.35,-108.27 66.54,-102.36 66.54,-86.61 78.35,-80.71 78.35,-76.77 66.54,-70.87 66.54,-55.12 78.35,-49.21 78.35,-45.28 66.54,-39.37 66.54,-23.62 78.35,-17.72 78.35,-13.78 66.54,-7.87 66.54,7.87 78.35,13.78 78.35,17.72 66.54,23.62 66.54,39.37 78.35,45.28 78.35,49.21 66.54,55.12 66.54,70.87 78.35,76.77 78.35,80.71 66.54,86.61 66.54,102.36 78.35,108.27 78.35,131.89 38.98,131.89 38.98,179.13 -57.48,179.13 -57.48,173.23 -53.54,169.29 -110.63,169.29 ; -110.63,-137.8 -110.63,137.8
Mechanical 16:
  rectangle: 68.5,90.55 107.87,98.43
  rectangle: 68.5,59.06 107.87,66.93
  rectangle: 68.5,27.56 107.87,35.43
  rectangle: 68.5,-3.94 107.87,3.94
  rectangle: 68.5,-35.43 107.87,-27.56
  rectangle: 68.5,-66.93 107.87,-59.06
  rectangle: 68.5,-98.43 107.87,-90.55
  lines w4: -110.63,-169.29 -110.63,-147.64 -102.76,-147.64 -110.63,-137.8 ; -110.63,137.8 -102.76,147.64 -110.63,147.64 -110.63,169.29

## XF2E-0815-1 [mm]
pads (10):
  rect 1.4x0.4 smd: 1(2.54,2.8) 2(2.54,2) 3(2.54,1.2) 4(2.54,0.4) 5(2.54,-0.4) 6(2.54,-1.2) 7(2.54,-2) 8(2.54,-2.8)
  rect 2.1x0.6 smd: M1(-2.11,4.3) M2(-2.11,-4.3)
Top Overlay:
  lines w0.102: -2.81,-4.7 -1.36,-4.7 -1.46,-4.8 -1.46,-4.95 0.99,-4.95 0.99,-3.75 1.99,-3.75 1.99,-3.15 1.69,-3 1.69,-2.6 1.99,-2.45 1.99,-2.35 1.69,-2.2 1.69,-1.8 1.99,-1.65 1.99,-1.55 1.69,-1.4 1.69,-1 1.99,-0.85 1.99,-0.75 1.69,-0.6 1.69,-0.2 1.99,-0.05 1.99,0.05 1.69,0.2 1.69,0.6 1.99,0.75 1.99,0.85 1.69,1 1.69,1.4 1.99,1.55 1.99,1.65 1.69,1.8 1.69,2.2 1.99,2.35 1.99,2.45 1.69,2.6 1.69,3 1.99,3.15 1.99,3.75 0.99,3.75 0.99,4.95 -1.46,4.95 -1.46,4.8 -1.36,4.7 -2.81,4.7 ; -2.81,-3.9 -2.81,3.9
Mechanical 16:
  rectangle: 1.74,2.7 2.74,2.9
  rectangle: 1.74,1.9 2.74,2.1
  rectangle: 1.74,1.1 2.74,1.3
  rectangle: 1.74,0.3 2.74,0.5
  rectangle: 1.74,-0.5 2.74,-0.3
  rectangle: 1.74,-1.3 2.74,-1.1
  rectangle: 1.74,-2.1 2.74,-1.9
  rectangle: 1.74,-2.9 2.74,-2.7
  lines w0.102: -2.81,-4.7 -2.81,-4.15 -2.61,-4.15 -2.81,-3.9 ; -2.81,3.9 -2.61,4.15 -2.81,4.15 -2.81,4.7

## XF2E-0915-1 [mm]
pads (11):
  rect 1.4x0.4 smd: 1(2.54,3.2) 2(2.54,2.4) 3(2.54,1.6) 4(2.54,0.8) 5(2.54,0) 6(2.54,-0.8) 7(2.54,-1.6) 8(2.54,-2.4) 9(2.54,-3.2)
  rect 2.1x0.6 smd: M1(-2.11,4.7) M2(-2.11,-4.7)
Top Overlay:
  lines w0.102: -2.81,-5.1 -1.36,-5.1 -1.46,-5.2 -1.46,-5.35 0.99,-5.35 0.99,-4.15 1.99,-4.15 1.99,-3.55 1.69,-3.4 1.69,-3 1.99,-2.85 1.99,-2.75 1.69,-2.6 1.69,-2.2 1.99,-2.05 1.99,-1.95 1.69,-1.8 1.69,-1.4 1.99,-1.25 1.99,-1.15 1.69,-1 1.69,-0.6 1.99,-0.45 1.99,-0.35 1.69,-0.2 1.69,0.2 1.99,0.35 1.99,0.45 1.69,0.6 1.69,1 1.99,1.15 1.99,1.25 1.69,1.4 1.69,1.8 1.99,1.95 1.99,2.05 1.69,2.2 1.69,2.6 1.99,2.75 1.99,2.85 1.69,3 1.69,3.4 1.99,3.55 1.99,4.15 0.99,4.15 0.99,5.35 -1.46,5.35 -1.46,5.2 -1.36,5.1 -2.81,5.1 ; -2.81,-4.3 -2.81,4.3
Mechanical 16:
  rectangle: 1.74,3.1 2.74,3.3
  rectangle: 1.74,2.3 2.74,2.5
  rectangle: 1.74,1.5 2.74,1.7
  rectangle: 1.74,0.7 2.74,0.9
  rectangle: 1.74,-0.1 2.74,0.1
  rectangle: 1.74,-0.9 2.74,-0.7
  rectangle: 1.74,-1.7 2.74,-1.5
  rectangle: 1.74,-2.5 2.74,-2.3
  rectangle: 1.74,-3.3 2.74,-3.1
  lines w0.102: -2.81,-5.1 -2.81,-4.55 -2.61,-4.55 -2.81,-4.3 ; -2.81,4.3 -2.61,4.55 -2.81,4.55 -2.81,5.1

## XF2E-1015-1 [mm]
pads (12):
  rect 1.4x0.4 smd: 1(2.54,3.6) 2(2.54,2.8) 3(2.54,2) 4(2.54,1.2) 5(2.54,0.4) 6(2.54,-0.4) 7(2.54,-1.2) 8(2.54,-2) 9(2.54,-2.8) 10(2.54,-3.6)
  rect 2.1x0.6 smd: M1(-2.11,5.1) M2(-2.11,-5.1)
Top Overlay:
  lines w0.102: -2.81,-5.5 -1.36,-5.5 -1.46,-5.6 -1.46,-5.75 0.99,-5.75 0.99,-4.55 1.99,-4.55 1.99,-3.95 1.69,-3.8 1.69,-3.4 1.99,-3.25 1.99,-3.15 1.69,-3 1.69,-2.6 1.99,-2.45 1.99,-2.35 1.69,-2.2 1.69,-1.8 1.99,-1.65 1.99,-1.55 1.69,-1.4 1.69,-1 1.99,-0.85 1.99,-0.75 1.69,-0.6 1.69,-0.2 1.99,-0.05 1.99,0.05 1.69,0.2 1.69,0.6 1.99,0.75 1.99,0.85 1.69,1 1.69,1.4 1.99,1.55 1.99,1.65 1.69,1.8 1.69,2.2 1.99,2.35 1.99,2.45 1.69,2.6 1.69,3 1.99,3.15 1.99,3.25 1.69,3.4 1.69,3.8 1.99,3.95 1.99,4.55 0.99,4.55 0.99,5.75 -1.46,5.75 -1.46,5.6 -1.36,5.5 -2.81,5.5 ; -2.81,-4.7 -2.81,4.7
Mechanical 16:
  rectangle: 1.74,3.5 2.74,3.7
  rectangle: 1.74,2.7 2.74,2.9
  rectangle: 1.74,1.9 2.74,2.1
  rectangle: 1.74,1.1 2.74,1.3
  rectangle: 1.74,0.3 2.74,0.5
  rectangle: 1.74,-0.5 2.74,-0.3
  rectangle: 1.74,-1.3 2.74,-1.1
  rectangle: 1.74,-2.1 2.74,-1.9
  rectangle: 1.74,-2.9 2.74,-2.7
  rectangle: 1.74,-3.7 2.74,-3.5
  lines w0.102: -2.81,-5.5 -2.81,-4.95 -2.61,-4.95 -2.81,-4.7 ; -2.81,4.7 -2.61,4.95 -2.81,4.95 -2.81,5.5

## XF2E-1215-1 [mm]
pads (14):
  rect 1.4x0.4 smd: 1(2.54,4.4) 2(2.54,3.6) 3(2.54,2.8) 4(2.54,2) 5(2.54,1.2) 6(2.54,0.4) 7(2.54,-0.4) 8(2.54,-1.2) 9(2.54,-2) 10(2.54,-2.8) 11(2.54,-3.6) 12(2.54,-4.4)
  rect 2.1x0.6 smd: M1(-2.11,5.9) M2(-2.11,-5.9)
Top Overlay:
  lines w0.102: -2.81,-6.3 -1.36,-6.3 -1.46,-6.4 -1.46,-6.55 0.99,-6.55 0.99,-5.35 1.99,-5.35 1.99,-4.75 1.69,-4.6 1.69,-4.2 1.99,-4.05 1.99,-3.95 1.69,-3.8 1.69,-3.4 1.99,-3.25 1.99,-3.15 1.69,-3 1.69,-2.6 1.99,-2.45 1.99,-2.35 1.69,-2.2 1.69,-1.8 1.99,-1.65 1.99,-1.55 1.69,-1.4 1.69,-1 1.99,-0.85 1.99,-0.75 1.69,-0.6 1.69,-0.2 1.99,-0.05 1.99,0.05 1.69,0.2 1.69,0.6 1.99,0.75 1.99,0.85 1.69,1 1.69,1.4 1.99,1.55 1.99,1.65 1.69,1.8 1.69,2.2 1.99,2.35 1.99,2.45 1.69,2.6 1.69,3 1.99,3.15 1.99,3.25 1.69,3.4 1.69,3.8 1.99,3.95 1.99,4.05 1.69,4.2 1.69,4.6 1.99,4.75 1.99,5.35 0.99,5.35 0.99,6.55 -1.46,6.55 -1.46,6.4 -1.36,6.3 -2.81,6.3 ; -2.81,-5.5 -2.81,5.5
Mechanical 16:
  rectangle: 1.74,4.3 2.74,4.5
  rectangle: 1.74,3.5 2.74,3.7
  rectangle: 1.74,2.7 2.74,2.9
  rectangle: 1.74,1.9 2.74,2.1
  rectangle: 1.74,1.1 2.74,1.3
  rectangle: 1.74,0.3 2.74,0.5
  rectangle: 1.74,-0.5 2.74,-0.3
  rectangle: 1.74,-1.3 2.74,-1.1
  rectangle: 1.74,-2.1 2.74,-1.9
  rectangle: 1.74,-2.9 2.74,-2.7
  rectangle: 1.74,-3.7 2.74,-3.5
  rectangle: 1.74,-4.5 2.74,-4.3
  lines w0.102: -2.81,-6.3 -2.81,-5.75 -2.61,-5.75 -2.81,-5.5 ; -2.81,5.5 -2.61,5.75 -2.81,5.75 -2.81,6.3

## XF2E-1515-1 [mm]
pads (17):
  rect 1.4x0.4 smd: 1(2.54,5.6) 2(2.54,4.8) 3(2.54,4) 4(2.54,3.2) 5(2.54,2.4) 6(2.54,1.6) 7(2.54,0.8) 8(2.54,0) 9(2.54,-0.8) 10(2.54,-1.6) 11(2.54,-2.4) 12(2.54,-3.2) 13(2.54,-4) 14(2.54,-4.8) 15(2.54,-5.6)
  rect 2.1x0.6 smd: M1(-2.11,7.1) M2(-2.11,-7.1)
Top Overlay:
  lines w0.102: -2.81,-7.5 -1.36,-7.5 -1.46,-7.6 -1.46,-7.75 0.99,-7.75 0.99,-6.55 1.99,-6.55 1.99,-5.95 1.69,-5.8 1.69,-5.4 1.99,-5.25 1.99,-5.15 1.69,-5 1.69,-4.6 1.99,-4.45 1.99,-4.35 1.69,-4.2 1.69,-3.8 1.99,-3.65 1.99,-3.55 1.69,-3.4 1.69,-3 1.99,-2.85 1.99,-2.75 1.69,-2.6 1.69,-2.2 1.99,-2.05 1.99,-1.95 1.69,-1.8 1.69,-1.4 1.99,-1.25 1.99,-1.15 1.69,-1 1.69,-0.6 1.99,-0.45 1.99,-0.35 1.69,-0.2 1.69,0.2 1.99,0.35 1.99,0.45 1.69,0.6 1.69,1 1.99,1.15 1.99,1.25 1.69,1.4 1.69,1.8 1.99,1.95 1.99,2.05 1.69,2.2 1.69,2.6 1.99,2.75 1.99,2.85 1.69,3 1.69,3.4 1.99,3.55 1.99,3.65 1.69,3.8 1.69,4.2 1.99,4.35 1.99,4.45 1.69,4.6 1.69,5 1.99,5.15 1.99,5.25 1.69,5.4 1.69,5.8 1.99,5.95 1.99,6.55 0.99,6.55 0.99,7.75 -1.46,7.75 -1.46,7.6 -1.36,7.5 -2.81,7.5 ; -2.81,-6.7 -2.81,6.7
Mechanical 16:
  rectangle: 1.74,5.5 2.74,5.7
  rectangle: 1.74,4.7 2.74,4.9
  rectangle: 1.74,3.9 2.74,4.1
  rectangle: 1.74,3.1 2.74,3.3
  rectangle: 1.74,2.3 2.74,2.5
  rectangle: 1.74,1.5 2.74,1.7
  rectangle: 1.74,0.7 2.74,0.9
  rectangle: 1.74,-0.1 2.74,0.1
  rectangle: 1.74,-0.9 2.74,-0.7
  rectangle: 1.74,-1.7 2.74,-1.5
  rectangle: 1.74,-2.5 2.74,-2.3
  rectangle: 1.74,-3.3 2.74,-3.1
  rectangle: 1.74,-4.1 2.74,-3.9
  rectangle: 1.74,-4.9 2.74,-4.7
  rectangle: 1.74,-5.7 2.74,-5.5
  lines w0.102: -2.81,-7.5 -2.81,-6.95 -2.61,-6.95 -2.81,-6.7 ; -2.81,6.7 -2.61,6.95 -2.81,6.95 -2.81,7.5

## XF2E-1715-1 [mm]
pads (19):
  rect 1.4x0.4 smd: 1(2.54,6.4) 2(2.54,5.6) 3(2.54,4.8) 4(2.54,4) 5(2.54,3.2) 6(2.54,2.4) 7(2.54,1.6) 8(2.54,0.8) 9(2.54,0) 10(2.54,-0.8) 11(2.54,-1.6) 12(2.54,-2.4) 13(2.54,-3.2) 14(2.54,-4) 15(2.54,-4.8) 16(2.54,-5.6) 17(2.54,-6.4)
  rect 2.1x0.6 smd: M1(-2.11,7.9) M2(-2.11,-7.9)
Top Overlay:
  lines w0.102: -2.81,-8.3 -1.36,-8.3 -1.46,-8.4 -1.46,-8.55 0.99,-8.55 0.99,-7.35 1.99,-7.35 1.99,-6.75 1.69,-6.6 1.69,-6.2 1.99,-6.05 1.99,-5.95 1.69,-5.8 1.69,-5.4 1.99,-5.25 1.99,-5.15 1.69,-5 1.69,-4.6 1.99,-4.45 1.99,-4.35 1.69,-4.2 1.69,-3.8 1.99,-3.65 1.99,-3.55 1.69,-3.4 1.69,-3 1.99,-2.85 1.99,-2.75 1.69,-2.6 1.69,-2.2 1.99,-2.05 1.99,-1.95 1.69,-1.8 1.69,-1.4 1.99,-1.25 1.99,-1.15 1.69,-1 1.69,-0.6 1.99,-0.45 1.99,-0.35 1.69,-0.2 1.69,0.2 1.99,0.35 1.99,0.45 1.69,0.6 1.69,1 1.99,1.15 1.99,1.25 1.69,1.4 1.69,1.8 1.99,1.95 1.99,2.05 1.69,2.2 1.69,2.6 1.99,2.75 1.99,2.85 1.69,3 1.69,3.4 1.99,3.55 1.99,3.65 1.69,3.8 1.69,4.2 1.99,4.35 1.99,4.45 1.69,4.6 1.69,5 1.99,5.15 1.99,5.25 1.69,5.4 1.69,5.8 1.99,5.95 1.99,6.05 1.69,6.2 1.69,6.6 1.99,6.75 1.99,7.35 0.99,7.35 0.99,8.55 -1.46,8.55 -1.46,8.4 -1.36,8.3 -2.81,8.3 ; -2.81,-7.5 -2.81,7.5
Mechanical 16:
  rectangle: 1.74,6.3 2.74,6.5
  rectangle: 1.74,5.5 2.74,5.7
  rectangle: 1.74,4.7 2.74,4.9
  rectangle: 1.74,3.9 2.74,4.1
  rectangle: 1.74,3.1 2.74,3.3
  rectangle: 1.74,2.3 2.74,2.5
  rectangle: 1.74,1.5 2.74,1.7
  rectangle: 1.74,0.7 2.74,0.9
  rectangle: 1.74,-0.1 2.74,0.1
  rectangle: 1.74,-0.9 2.74,-0.7
  rectangle: 1.74,-1.7 2.74,-1.5
  rectangle: 1.74,-2.5 2.74,-2.3
  rectangle: 1.74,-3.3 2.74,-3.1
  rectangle: 1.74,-4.1 2.74,-3.9
  rectangle: 1.74,-4.9 2.74,-4.7
  rectangle: 1.74,-5.7 2.74,-5.5
  rectangle: 1.74,-6.5 2.74,-6.3
  lines w0.102: -2.81,-8.3 -2.81,-7.75 -2.61,-7.75 -2.81,-7.5 ; -2.81,7.5 -2.61,7.75 -2.81,7.75 -2.81,8.3